# Altium schematic symbol library C11204-01.SchLib: 1 symbol
Pins are listed as number, name and electrical type; pins without a type are passive.

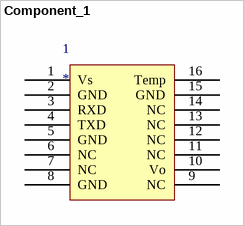
[diagram p0: symbol Component_1]

## Component_1
designator 1
pins: 1 Vs, 2 GND, 3 RXD, 4 TXD, 5 GND, 6 NC, 7 NC, 8 GND, 9 NC, 10 Vo, 11 NC, 12 NC, 13 NC, 14 NC, 15 GND, 16 Temp